# Altium footprint library Arturo_Approved.PcbLib: 31 footprints (part 1 of 2)
Each footprint in its own frame and in the unit in brackets; x right, y up, seen from the top. Pads: shape width x height; smd on the part's side, far side on the other; paste and mask are expansions set on the pad; w line width, h text height; cw(c..) or ccw(c..) is an arc to the next point about the centre after c.
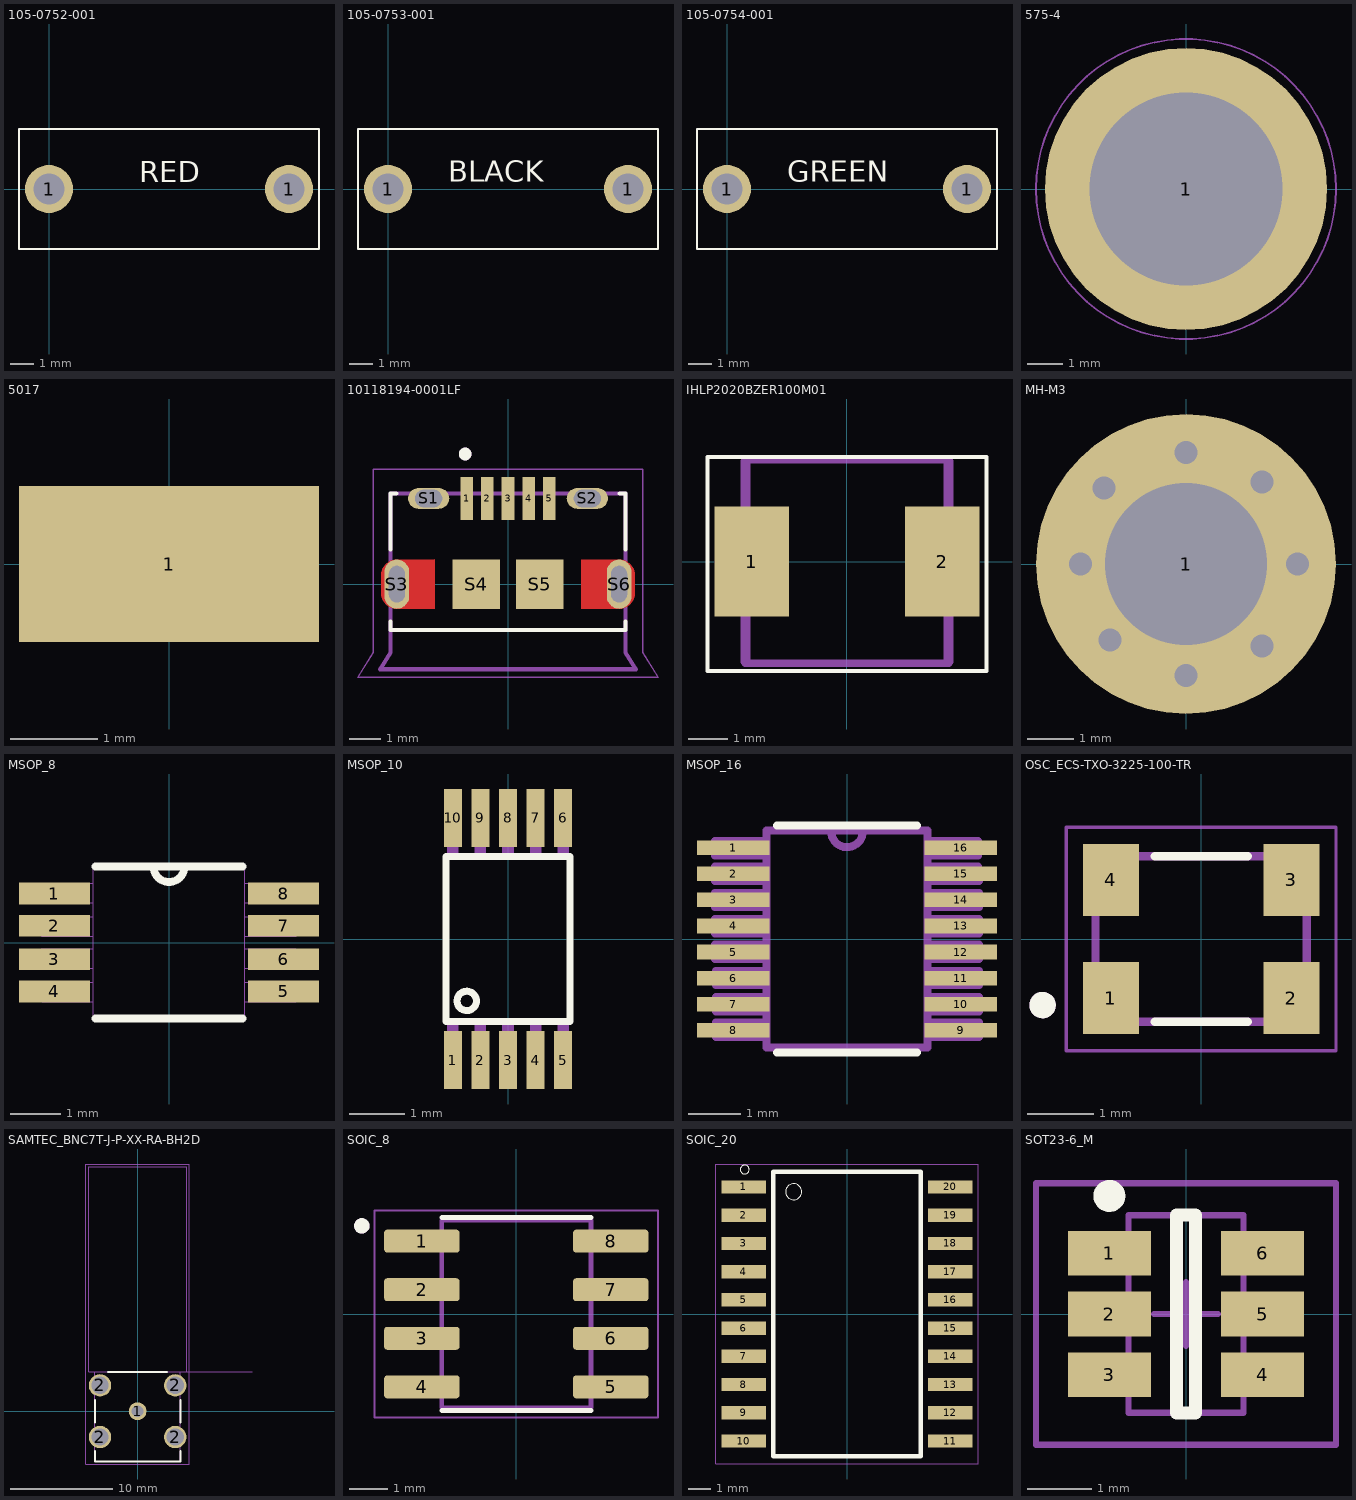
[diagram p0: the footprints below, top view; thin cyan lines are the x and y axes]

## 105-0752-001 [mil] "BANANA CONN RED"
pads (2):
  round 80 hole 52: 1(0,0) 1(400,0)
Top Overlay:
  lines w3.94: -50,-100 -50,0 -50,100 450,100 450,-100 -50,-100
  text "RED" at 150,0 h60
3D body "105-0752-001--3DModel-STEP-306947.STEP": height 203, standoff -125.48, extent -9.21,-77.99 409.23,78.01

## 105-0753-001 [mil] "BANANA CONN BLACK"
pads (2):
  round 80 hole 52: 1(0,0) 1(400,0)
Top Overlay:
  lines w3.94: -50,-100 450,-100 450,100 -50,100 -50,0 -50,-100
  text "BLACK" at 100,0.64 h60
3D body "105-0752-001--3DModel-STEP-306947.STEP": height 203, standoff -125.48, extent -9.21,-77.99 409.23,78.01

## 105-0754-001 [mil] "BANANA CONN GREEN"
pads (2):
  round 80 hole 52: 1(0,0) 1(400,0)
Top Overlay:
  lines w3.94: -50,-100 450,-100 450,100 -50,100 -50,0 -50,-100
  text "GREEN" at 100,0.64 h60
3D body "105-0752-001--3DModel-STEP-306947.STEP": height 203, standoff -125.48, extent -9.21,-77.99 409.23,78.01

## 575-4 [mm]
pads (1):
  round 7.9 hole 5.4: 1(0,0)
Mechanical 15:
  circle w0.05: c0,0 r4.2

## 5017 [mil] "KEYSTONE TP GOLD"
pads (1):
  rect 135x70 smd: 1(0,0)
3D body: height 60, standoff 0, extent -60,-30 60,30

## 10118194-0001LF [mm]
pads (11):
  rect 0.4x1.35 smd: 1(-1.3,2.7) 2(-0.65,2.7) 3(0,2.7) 4(0.65,2.7) 5(1.3,2.7)
  oval 1.3x0.65 hole 0.55 slot 0.85 at 0 deg: S1(-2.5,2.7) S2(2.5,2.7)
  oval 0.775x1.55 hole 0.5 slot 1.15 at 90 deg: S3(-3.5,0) S6(3.5,0)
  rect 1.5x1.55 smd: S4(-1,0) S5(1,0)
Top Layer:
  region: 192 vertices and 0 holes, not listed, extent -4,-0.775 -2.3,0.78
  region: 192 vertices and 0 holes, not listed, extent 2.3,-0.78 4,0.775
Top Overlay:
  circle w0.2: c-1.35,4.1 r0.1
  lines w0.127: -3.7,-1.18 -3.7,-1.45 3.7,-1.45 3.7,-1.18 ; -3.7,1.095 -3.7,2.85 -3.52,2.85 ; 3.52,2.85 3.7,2.85 3.7,1.095
Top Paste:
  drawing of 6 lines, arcs and shapes, not listed
Top Solder:
  region: -2.2,-0.875 -3.6,-0.875 -3.626,-0.874 -3.652,-0.872 -3.678,-0.869 -3.704,-0.864 -3.729,-0.858 -3.755,-0.851 -3.779,-0.842 -3.803,-0.832 -3.827,-0.821 -3.85,-0.808 -3.872,-0.794 -3.894,-0.78 -3.915,-0.764 -3.935,-0.747 -3.954,-0.729 -3.972,-0.71 -3.989,-0.69 -4.005,-0.669 -4.019,-0.647 -4.033,-0.625 -4.046,-0.602 -4.057,-0.578 -4.067,-0.554 -4.076,-0.53 -4.083,-0.504 -4.089,-0.479 -4.094,-0.453 -4.097,-0.427 -4.099,-0.401 -4.1,-0.375 -4.1,0.375 -4.099,0.401 -4.097,0.427 -4.094,0.453 -4.089,0.479 -4.083,0.504 -4.076,0.53 -4.067,0.554 -4.057,0.578 -4.046,0.602 -4.033,0.625 -4.019,0.647 -4.005,0.669 -3.989,0.69 -3.972,0.71 -3.954,0.729 -3.935,0.747 -3.915,0.764 -3.894,0.78 -3.872,0.794 -3.85,0.808 -3.827,0.821 -3.803,0.832 -3.779,0.842 -3.755,0.851 -3.729,0.858 -3.704,0.864 -3.678,0.869 -3.652,0.872 -3.626,0.874 -3.6,0.875 -2.2,0.875
  region: 3.626,0.874 3.652,0.872 3.678,0.869 3.704,0.864 3.729,0.858 3.755,0.851 3.779,0.842 3.803,0.832 3.827,0.821 3.85,0.808 3.872,0.794 3.894,0.78 3.915,0.764 3.935,0.747 3.954,0.729 3.972,0.71 3.989,0.69 4.005,0.669 4.019,0.647 4.033,0.625 4.046,0.602 4.057,0.578 4.067,0.554 4.076,0.53 4.083,0.504 4.089,0.479 4.094,0.453 4.097,0.427 4.099,0.401 4.1,0.375 4.1,-0.375 4.099,-0.401 4.097,-0.427 4.094,-0.453 4.089,-0.479 4.083,-0.504 4.076,-0.53 4.067,-0.554 4.057,-0.578 4.046,-0.602 4.033,-0.625 4.019,-0.647 4.005,-0.669 3.989,-0.69 3.972,-0.71 3.954,-0.729 3.935,-0.747 3.915,-0.764 3.894,-0.78 3.872,-0.794 3.85,-0.808 3.827,-0.821 3.803,-0.832 3.779,-0.842 3.755,-0.851 3.729,-0.858 3.704,-0.864 3.678,-0.869 3.652,-0.872 3.626,-0.874 3.6,-0.875 2.2,-0.875 2.2,0.875 3.6,0.875
Mechanical 13:
  circle w0.2: c-1.35,4.1 r0.1
  lines w0.127: -3.7,-1.45 3.7,-1.45 ; -3.7,-1.45 -3.7,2.85 3.7,2.85 3.7,-1.45 ; -3.7,-1.45 -3.7,-2.15 -4.025,-2.68 4.025,-2.68 3.7,-2.15 3.7,-1.45
  text "PCB END" at -1.95,-2.1 h0.5
Mechanical 15:
  lines w0.05: -4.725,-2.93 4.725,-2.93 4.25,-2.15 4.25,3.625 -4.25,3.625 -4.25,-2.15 -4.725,-2.93
3D body "10118194-0001LF--3DModel-STEP-56544.STEP": height 0.15, standoff -3.12, extent -3.859,-2.638 4.191,2.892

## IHLP2020BZER100M01 [mm]
pads (2):
  rect 1.905x2.79 smd: 1(-2.425,0) 2(2.426,0)
Top Overlay:
  lines w0.1: -3.556,-2.794 -3.556,2.667 3.556,2.667 3.556,-2.794 -3.556,-2.794
Mechanical 15:
  lines w0.2: -2.59,-2.59 2.59,-2.59 ; -2.59,2.59 2.59,2.59
  lines w0.254: -2.59,-2.55 -2.59,2.55 ; 2.59,-2.55 2.59,2.55
3D body: height 2.54, standoff 0, extent -2.59,-2.55 2.59,2.55

## MH-M3 [mm]
pads (1):
  round 6.5 hole 3.5: 1(0,0)
via 0,2.413 diameter 0.5 hole 0.5
via 2.413,0 diameter 0.5 hole 0.5
via -2.286,0 diameter 0.5 hole 0.5
via 0,-2.413 diameter 0.5 hole 0.5
via -1.651,-1.651 diameter 0.5 hole 0.5
via -1.778,1.651 diameter 0.5 hole 0.5
via 1.651,1.778 diameter 0.5 hole 0.5
via 1.651,-1.778 diameter 0.5 hole 0.5

## MSOP_8 [mil]
pads (8):
  rect 55x17 smd: 1(-89,38) 2(-89,13) 3(-89,-13) 4(-89,-38) 5(89,-38) 6(89,-13) 7(89,13) 8(89,38)
Top Overlay:
  lines w6: -57,-59 57,-59 ; -57,59 -12,59 ; 57,59 12,59 ; -12,59 ccw(c0,59) 12,59 ; -12,59 12,59
Mechanical 13:
  lines w0: -59,-46 -59,-59 59,-59 59,-46 ; -59,-46 -59,-31 ; -59,-46 -99,-46 -99,-31 -59,-31 ; -59,-31 -59,-20 ; -59,-20 -59,-5 ; -59,-20 -99,-20 -99,-5 -59,-5 ; -59,-5 -59,5 ; -59,5 -59,20 ; -59,5 -99,5 -99,20 -59,20 ; -59,20 -59,31 ; -59,31 -59,46 ; -59,31 -99,31 -99,46 -59,46 ; -59,46 -59,59 -12,59 ; -12,59 ccw(c0,59) 12,59 ; -12,59 12,59 ; 12,59 59,59 59,46 ; 59,-46 59,-31 ; 59,-46 99,-46 99,-31 59,-31 ; 59,-31 59,-20 ; 59,-20 59,-5 ; 59,-20 99,-20 99,-5 59,-5 ; 59,-5 59,5 ; 59,5 59,20 ; 59,5 99,5 99,20 59,20 ; 59,20 59,31 ; 59,31 59,46 ; 59,31 99,31 99,46 59,46
3D body "step_temp.STEP": height 41.93, standoff -1.38, extent -96.45,-59.06 96.46,59.05

## MSOP_10 [mm]
pads (10):
  rect 0.32x1.05 smd: 1(-1,-2.2) 2(-0.5,-2.2) 3(0,-2.2) 4(0.5,-2.2) 5(1,-2.2) 6(1,2.2) 7(0.5,2.2) 8(0,2.2) 9(-0.5,2.2) 10(-1,2.2)
Top Overlay:
  circle w0.127: c-0.75,-1.125 r0.177
  lines w0: -0.125,-2.125 0.125,-2.125 ; 0,-2.25 0,-2
  lines w0.127: -1.125,-1.5 1.125,-1.5 1.125,1.5 -1.125,1.5 -1.125,-1.5
Mechanical 13:
  region: -0.9,-2.1 -1.1,-2.1 -1.1,-1.5 -0.9,-1.5
  region: -0.4,-2.1 -0.6,-2.1 -0.6,-1.5 -0.4,-1.5
  region: 0.1,-2.1 -0.1,-2.1 -0.1,-1.5 0.1,-1.5
  region: 0.6,-2.1 0.4,-2.1 0.4,-1.5 0.6,-1.5
  region: 1.1,-2.1 0.9,-2.1 0.9,-1.5 1.1,-1.5
  region: 1.1,1.5 0.9,1.5 0.9,2.1 1.1,2.1
  region: 0.6,1.5 0.4,1.5 0.4,2.1 0.6,2.1
  region: 0.1,1.5 -0.1,1.5 -0.1,2.1 0.1,2.1
  region: -0.4,1.5 -0.6,1.5 -0.6,2.1 -0.4,2.1
  region: -0.9,1.5 -1.1,1.5 -1.1,2.1 -0.9,2.1
3D body "AD9833BRMZ.STEP": height -0.39, standoff -1.49, extent -1.5,-2.45 1.5,2.45

## MSOP_16 [mil]
pads (16):
  rect 55x11 smd: 1(-86,68.95) 2(-86,49.25) 3(-86,29.55) 4(-86,9.85) 5(-86,-9.85) 6(-86,-29.55) 7(-86,-49.25) 8(-86,-68.95) 9(86,-68.95) 10(86,-49.25) 11(86,-29.55) 12(86,-9.85) 13(86,9.85) 14(86,29.55) 15(86,49.25) 16(86,68.95)
Top Overlay:
  lines w6: -53,-86 53,-86 ; -53,86 53,86
Mechanical 4:
  lines w6: -100,-15 -100,-4 ; -100,-15 -61,-15 ; -100,-15 -100,-4 ; -100,-15 -61,-15 ; -100,-4 -61,-4 ; -100,-4 -61,-4 ; -100,4 -100,15 ; -100,4 -61,4 ; -100,4 -100,15 ; -100,4 -61,4 ; -100,15 -61,15 ; -100,15 -61,15 ; -100,24 -100,35 ; -100,24 -61,24 ; -100,24 -100,35 ; -100,24 -61,24 ; -100,35 -61,35 ; -100,35 -61,35 ; -100,44 -100,55 ; -100,44 -61,44 ; -100,44 -100,55 ; -100,44 -61,44 ; -100,55 -61,55 ; -100,55 -61,55 ; -100,63 -100,74 ; -100,63 -61,63 ; -100,63 -100,74 ; -100,63 -61,63 ; -100,74 -61,74 ; -100,74 -61,74 ; -99,-74 -99,-63 ; -99,-74 -61,-74 ; -99,-74 -99,-63 ; -99,-74 -61,-74 ; -99,-63 -61,-63 ; -99,-63 -61,-63 ; -99,-55 -99,-44 ; -99,-55 -61,-55 ; -99,-55 -99,-44 ; -99,-55 -61,-55 ; -99,-44 -61,-44 ; -99,-44 -61,-44 ; -99,-35 -99,-24 ; -99,-35 -61,-35 ; -99,-35 -99,-24 ; -99,-35 -61,-35 ; -99,-24 -61,-24 ; -99,-24 -61,-24 ; -61,-82 61,-82 ; -61,-82 -61,82 ; -61,-82 61,-82 ; -61,-82 -61,82 ; -61,-74 -61,-63 ; -61,-74 -61,-63 ; -61,-55 -61,-44 ; -61,-55 -61,-44 ; -61,-35 -61,-24 ; -61,-35 -61,-24 ; -61,-15 -61,-4 ; -61,-15 -61,-4 ; -61,4 -61,15 ; -61,4 -61,15 ; -61,24 -61,35 ; -61,24 -61,35 ; -61,44 -61,55 ; -61,44 -61,55 ; -61,63 -61,74 ; -61,63 -61,74 ; -61,82 12,82 ; -61,82 12,82 ; 12,82 61,82 ; 12,82 61,82 ; 61,-82 61,82 ; 61,-82 61,82 ; 61,-74 61,-63 ; 61,-74 100,-74 ; 61,-74 61,-63 ; 61,-74 100,-74 ; 61,-63 100,-63 ; 61,-63 100,-63 ; 61,-55 61,-44 ; 61,-55 100,-55 ; 61,-55 61,-44 ; 61,-55 100,-55 ; 61,-44 100,-44 ; 61,-44 100,-44 ; 61,-35 61,-24 ; 61,-35 100,-35 ; 61,-35 61,-24 ; 61,-35 100,-35 ; 61,-24 100,-24 ; 61,-24 100,-24 ; 61,-15 61,-4 ; 61,-15 100,-15 ; 61,-15 61,-4 ; 61,-15 100,-15 ; 61,-4 100,-4 ; 61,-4 100,-4 ; 61,4 61,15 ; 61,4 100,4 ; 61,4 61,15 ; 61,4 100,4 ; 61,15 100,15 ; 61,15 100,15 ; 61,24 61,35 ; 61,24 100,24 ; 61,24 61,35 ; 61,24 100,24 ; 61,35 100,35 ; 61,35 100,35 ; 61,44 61,55 ; 61,44 100,44 ; 61,44 61,55 ; 61,44 100,44 ; 61,55 99,55 ; 61,55 99,55 ; 61,63 61,74 ; 61,63 99,63 ; 61,63 61,74 ; 61,63 99,63 ; 61,74 99,74 ; 61,74 99,74 ; 99,55 100,44 ; 99,55 100,44 ; 99,63 99,74 ; 99,63 99,74 ; 100,-74 100,-63 ; 100,-74 100,-63 ; 100,-55 100,-44 ; 100,-55 100,-44 ; 100,-35 100,-24 ; 100,-35 100,-24 ; 100,-15 100,-4 ; 100,-15 100,-4 ; 100,4 100,15 ; 100,4 100,15 ; 100,24 100,35 ; 100,24 100,35 ; -12,81.08 ccw(c0,81.5) 12,81.92 cw(c0,81.5) -12,81.08
3D body "LTC2368CMS-18#PBF.STEP": height 43.65, standoff 0.35, extent -96.45,-79.51 96.46,79.51

## OSC_ECS-TXO-3225-100-TR [mm]
pads (4):
  rect 0.85x1.09 smd: 1(-1.365,-0.895) 2(1.365,-0.895) 3(1.365,0.895) 4(-1.365,0.895)
Top Overlay:
  circle w0.2: c-2.4,-1 r0.1
  lines w0.127: -0.705,-1.25 0.705,-1.25 ; -0.705,1.25 0.705,1.25
Mechanical 13:
  circle w0.2: c-2.4,-1 r0.1
  lines w0.127: -1.6,-1.25 -1.6,1.25 1.6,1.25 1.6,-1.25 -1.6,-1.25
Mechanical 15:
  lines w0.05: -2.04,-1.69 -2.04,1.69 2.04,1.69 2.04,-1.69 -2.04,-1.69
3D body "ECS-TXO-3225-100-TR.STEP": height 1, standoff 0, extent -1.6,-1.25 1.6,1.25

## SAMTEC_BNC7T-J-P-XX-RA-BH2D [mm]
pads (5):
  round 1.755 hole 1.17: 1(0,0)
  round 2.2 hole 1.7: 2(-3.7,-2.54) 2(-3.7,2.54) 2(3.7,-2.54) 2(3.7,2.54)
Top Overlay:
  lines w0.2: -4.2,-3.9 -4.2,-4.94 4.2,-4.94 4.2,-3.9 ; -4.2,-1.1 -4.2,1.1 ; -2.9,3.86 2.9,3.86 ; 4.2,-1.1 4.2,1.1
Mechanical 13:
  lines w0.1: 11.25,3.86 4.825,3.86 ; -4.2,3.86 4.2,3.86 ; -4.2,3.86 -4.2,-4.94 4.2,-4.94 4.2,3.86 ; -4.2,3.86 -4.825,3.86 -4.825,24.06 4.825,24.06 4.825,3.86 ; 4.2,3.86 4.825,3.86
  text "PCB Edge" at 5.75,4.1 h1.27
Mechanical 15:
  lines w0.05: -5.075,-5.19 5.075,-5.19 5.075,24.31 -5.075,24.31 -5.075,-5.19
3D body "BNC7T-J-P-HN-RA-BH2D.stp": height 12, standoff -4.5, extent -8,-4.76 8,24.24

## SOIC_8 [mm]
pads (8):
  rrect25% 1.97x0.6 smd: 1(-2.47,1.905) 2(-2.47,0.635) 3(-2.47,-0.635) 4(-2.47,-1.905) 5(2.47,-1.905) 6(2.47,-0.635) 7(2.47,0.635) 8(2.47,1.905)
Top Overlay:
  circle w0.2: c-4.04,2.305 r0.1
  lines w0.127: -1.95,-2.525 1.95,-2.525 ; -1.95,2.525 1.95,2.525
Mechanical 13:
  circle w0.2: c-4.04,2.305 r0.1
  lines w0.127: -1.95,-2.452 1.95,-2.452 1.95,2.452 -1.95,2.452 -1.95,-2.452
Mechanical 15:
  lines w0.05: -3.705,-2.702 3.705,-2.702 3.705,2.702 -3.705,2.702 -3.705,-2.702
3D body "OP07CDR.STEP": height 1.75, standoff 0, extent -2.997,-2.451 2.997,2.451

## SOIC_20 [mm]
pads (20):
  rect 2x0.6 smd: 1(-4.65,5.715) 2(-4.65,4.445) 3(-4.65,3.175) 4(-4.65,1.905) 5(-4.65,0.635) 6(-4.65,-0.635) 7(-4.65,-1.905) 8(-4.65,-3.175) 9(-4.65,-4.445) 10(-4.65,-5.715) 11(4.65,-5.715) 12(4.65,-4.445) 13(4.65,-3.175) 14(4.65,-1.905) 15(4.65,-0.635) 16(4.65,0.635) 17(4.65,1.905) 18(4.65,3.175) 19(4.65,4.445) 20(4.65,5.715)
Top Overlay:
  circle w0: c-2.4,5.5 r0.361
  circle w0: c-4.6,6.5 r0.2
  lines w0.2: -3.325,-6.4 3.325,-6.4 3.325,6.4 -3.325,6.4 -3.325,-6.4
Mechanical 15:
  lines w0.05: -5.9,-6.75 -5.9,6.75 5.9,6.75 5.9,-6.75 -5.9,-6.75
3D body "AD630ARZ.STEP": height 2.6, standoff -0.05, extent -5.175,-6.4 5.15,6.4

## SOT23-6_M [mm] "SOT23, 6-Leads, Body 2.9x1.6mm, Pitch 0.95mm, Lead Span 2.7mm, IPC Low Density"
height 1.45
pads (6):
  rect 1.3x0.7 smd: 1(-1.2,0.95) 2(-1.2,0) 3(-1.2,-0.95) 4(1.2,-0.95) 5(1.2,0) 6(1.2,0.95)
Top Overlay:
  circle w0.25: c-1.2,1.85 r0.125
  lines w0.2: -0.15,-1.55 0.15,-1.55 0.15,1.55 -0.15,1.55 -0.15,-1.55
Mechanical 13:
  lines w0.1: -0.9,-1.55 -0.9,1.55 0.9,1.55 0.9,-1.55 -0.9,-1.55
Mechanical 15:
  lines w0.1: -0.5,0 0.5,0 ; 0,-0.5 0,0.5 ; -2.35,-2.05 -2.35,2.05 2.35,2.05 2.35,-2.05 -2.35,-2.05
3D body "LTC1983ES6-5.STEP": height -0.51, standoff -1.96, extent -1.4,-1.45 1.4,1.45